# Altium footprint library SC_SSOP8.PcbLib: 1 footprints
Each footprint in its own frame and in the unit in brackets; x right, y up, seen from the top. Pads: shape width x height; smd on the part's side, far side on the other; paste and mask are expansions set on the pad; w line width, h text height; cw(c..) or ccw(c..) is an arc to the next point about the centre after c.
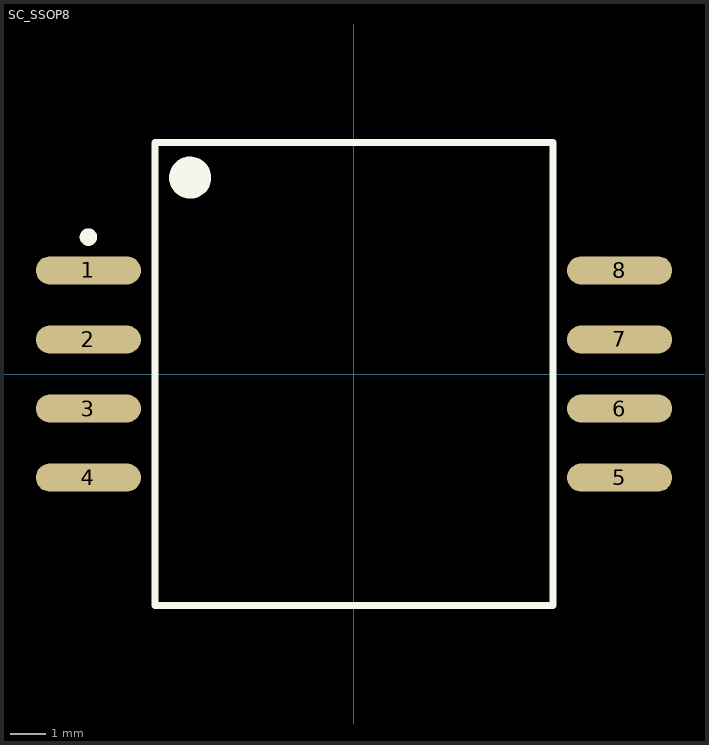
[diagram p0: the footprint, top view; thin cyan lines are the x and y axes]

## SC_SSOP8 [mm] "SOP, 8-Leads, Body 13.19x13.19mm, Pitch 1.97mm, IPC Medium Density"
height 15.35
pads (8):
  oval 3x0.8 smd: 1(-7.575,2.955) 2(-7.575,0.985) 3(-7.575,-0.985) 4(-7.575,-2.955) 5(7.575,-2.955) 6(7.575,-0.985) 7(7.575,0.985) 8(7.575,2.955)
Top Overlay:
  circle w0.6: c-4.675,5.6 r0.3
  circle w0.25: c-7.575,3.905 r0.125
  lines w0.2: -5.675,-6.6 5.675,-6.6 5.675,6.6 -5.675,6.6 -5.675,-6.6
3D body: height 15.35, standoff 0.08, extent -6.6,-6.6 6.6,6.6